# Altium footprint library diode.PCBLIB: 211 footprints (part 6 of 14)
Each footprint in its own frame and in the unit in brackets; x right, y up, seen from the top. Pads: shape width x height; smd on the part's side, far side on the other; paste and mask are expansions set on the pad; w line width, h text height; cw(c..) or ccw(c..) is an arc to the next point about the centre after c.
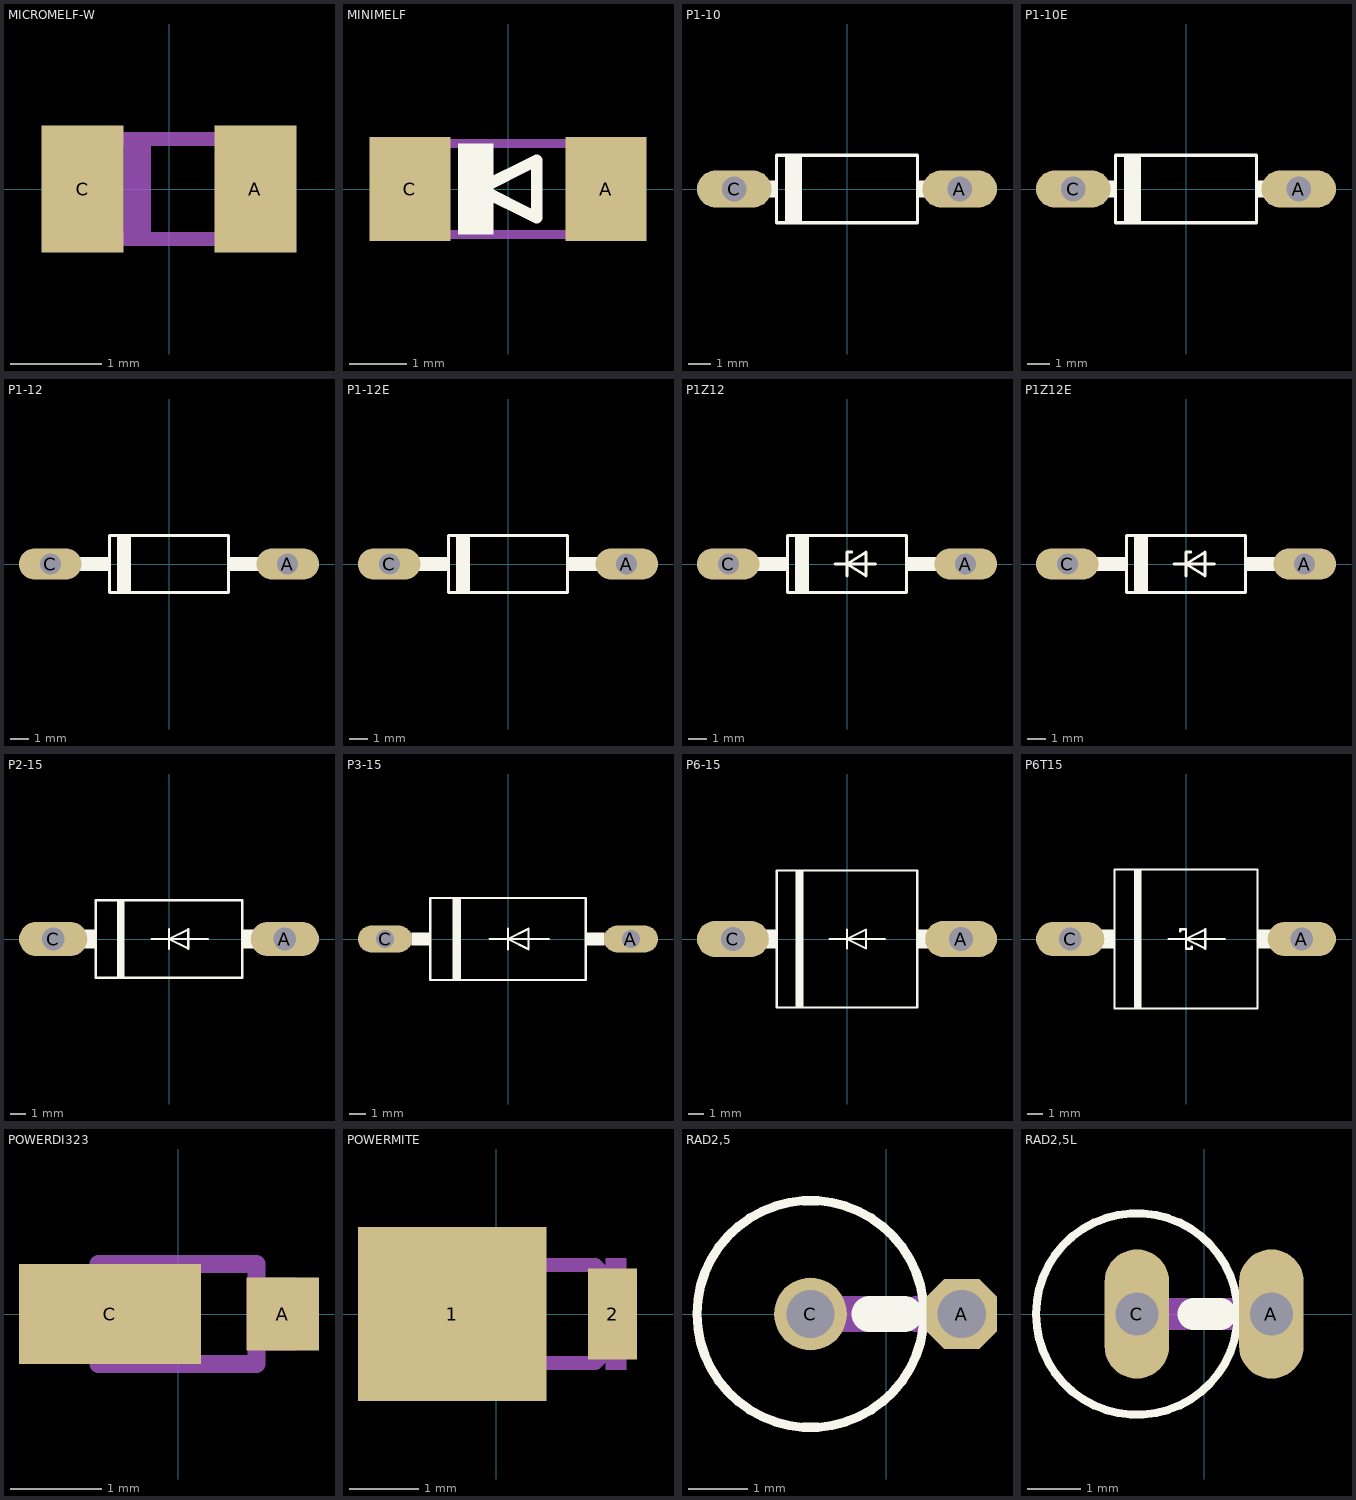
[diagram p5: the footprints below, top view; thin cyan lines are the x and y axes]

## MICROMELF-W [mil]
pads (2):
  rect 35.43x55.12 smd: A(37.4,0) C(-37.4,0)
Mechanical 4:
  rectangle: -19.69,-19.69 -7.87,21.65
  rectangle: 25.59,-25.59 37.4,25.59
  rectangle: -37.4,-25.59 -25.59,25.59
  lines w6: -25.59,-21.65 25.59,-21.65 ; -25.59,21.65 25.59,21.65

## MINIMELF [mil]
pads (2):
  rect 55.12x70.87 smd: A(66.93,0) C(-66.93,0)
Top Overlay:
  rectangle: -34,-31 -10,31
  lines w8: -19.69,0 19.69,-19.69 19.69,19.69 -19.69,0
Mechanical 4:
  rectangle: 51,-34 73,34
  rectangle: -73,-34 -51,34
  lines w6: -52,-31 52,-31 ; -52,31 52,31

## P1-10 [mil]
pads (2):
  oval 132x66 hole 44: A(200,0) C(-200,0)
Top Overlay:
  rectangle: 125,-15 155,15
  rectangle: -155,-15 -125,15
  rectangle: -110,-60 -80,60
  lines w6: -125,-60 -125,60 125,60 125,-60 -125,-60
Mechanical 4:
  lines w30: -200,0 -160,0 ; 160,0 200,0

## P1-10E [mil]
pads (2):
  oval 132x66 hole 44: A(200,0) C(-200,0)
Top Overlay:
  rectangle: -145,-15 -125,15
  rectangle: 125,-15 145,15
  rectangle: -110,-60 -80,60
  lines w6: -125,-60 -125,60 125,60 125,-60 -125,-60
Mechanical 4:
  lines w30: -200,0 -150,0 ; 150,0 200,0

## P1-12 [mil]
pads (2):
  oval 132x66 hole 44: A(250,0) C(-250,0)
Top Overlay:
  rectangle: -205,-15 -125,15
  rectangle: 125,-15 205,15
  rectangle: -110,-60 -80,60
  lines w6: -125,-60 -125,60 125,60 125,-60 -125,-60
Mechanical 4:
  lines w30: -250,0 -210,0 ; 210,0 250,0

## P1-12E [mil]
pads (2):
  oval 132x66 hole 44: A(250,0) C(-250,0)
Top Overlay:
  rectangle: -195,-15 -125,15
  rectangle: 125,-15 195,15
  rectangle: -110,-60 -80,60
  lines w6: -125,-60 -125,60 125,60 125,-60 -125,-60
Mechanical 4:
  lines w30: -250,0 -200,0 ; 200,0 250,0

## P1Z12 [mil]
pads (2):
  oval 132x66 hole 44: A(250,0) C(-250,0)
Top Overlay:
  rectangle: -110,-60 -80,60
  rectangle: 125,-15 205,15
  rectangle: -205,-15 -125,15
  lines w6: -25,0 0,0 ; 0,-25 0,0 ; 10,25 0,25 0,0 ; 60,0 0,0 ; 0,0 40,-25 40,25 0,0 ; -125,-60 125,-60 125,60 -125,60 -125,-60
Mechanical 4:
  lines w30: -250,0 -210,0 ; 210,0 250,0

## P1Z12E [mil]
pads (2):
  oval 132x66 hole 44: A(250,0) C(-250,0)
Top Overlay:
  rectangle: -110,-60 -80,60
  rectangle: 125,-15 195,15
  rectangle: -195,-15 -125,15
  lines w6: -25,0 0,0 ; 0,-25 0,0 ; 10,25 0,25 0,0 ; 60,0 0,0 ; 0,0 40,-25 40,25 0,0 ; -125,-60 125,-60 125,60 -125,60 -125,-60
Mechanical 4:
  lines w30: -250,0 -200,0 ; 200,0 250,0

## P2-15 [mil]
pads (2):
  oval 177x88.5 hole 59: A(300,0) C(-300,0)
Top Overlay:
  rectangle: -135,-100 -115,100
  rectangle: 190,-25 235,25
  rectangle: -235,-25 -190,25
  lines w6: -45,0 0,0 ; 0,-25 0,0 ; 0,25 0,0 ; 100,0 0,0 ; 0,0 50,25 50,-25 0,0 ; -190,-100 -190,100 190,100 190,-100 -190,-100
Mechanical 4:
  lines w50: -300,0 -245,0 ; 245,0 300,0

## P3-15 [mil]
pads (2):
  oval 132x66 hole 44: A(300,0) C(-300,0)
Top Overlay:
  rectangle: -235,-16 -190,16
  rectangle: 190,-16 235,16
  rectangle: -135,-100 -115,100
  lines w6: -45,0 0,0 ; 0,-25 0,0 ; 0,25 0,0 ; 100,0 0,0 ; 0,0 50,-25 50,25 0,0 ; -190,-100 190,-100 190,100 -190,100 -190,-100
Mechanical 4:
  lines w32: -300,0 -240,0 ; 240,0 300,0

## P6-15 [mil]
pads (2):
  oval 189x94.5 hole 63: A(300,0) C(-300,0)
Top Overlay:
  rectangle: -135,-180 -115,180
  rectangle: 185,-25 235,25
  rectangle: -235,-25 -185,25
  lines w6: -45,0 0,0 ; 0,-25 0,0 ; 0,25 0,0 ; 100,0 0,0 ; 0,0 50,25 50,-25 0,0 ; -185,-180 -185,180 185,180 185,-180 -185,-180
Mechanical 4:
  lines w50: -300,0 -245,0 ; 245,0 300,0

## P6T15 [mil]
pads (2):
  oval 177x88.5 hole 59: A(300,0) C(-300,0)
Top Overlay:
  rectangle: -135,-180 -115,180
  rectangle: 185,-25 235,25
  rectangle: -235,-25 -185,25
  lines w6: -45,0 0,0 ; -15,20 -15,25 0,25 0,0 ; 15,-20 15,-25 0,-25 0,0 ; 100,0 0,0 ; 0,0 50,25 50,-25 0,0 ; -185,-180 -185,180 185,180 185,-180 -185,-180
Mechanical 4:
  lines w50: -300,0 -245,0 ; 245,0 300,0

## POWERDI323 [mil]
pads (2):
  rect 31.5x31.5 smd: A(45.28,0)
  rect 78.74x43.31 smd: C(-29.53,0)
Mechanical 4:
  rectangle: -51.18,-21.16 -20.67,21.16
  rectangle: 32.97,-15.75 51.18,15.75
  lines w7.87: 0,-13.78 -16.73,0 0,13.78
  lines w8: -34.45,-21.65 -34.45,21.65 33.96,21.65 33.96,-21.65 -34.45,-21.65

## POWERMITE [mil]
pads (2):
  rect 106.3x98.43 smd: 1(-25,0)
  rect 27.56x51.18 smd: 2(65.55,0)
Mechanical 4:
  rectangle: -45.67,-25.59 -34.84,25.59
  rectangle: -72.24,-31.5 -60.43,31.5
  rectangle: 61.61,-31.5 73.43,31.5
  lines w8: -62.4,-19.69 -54.53,-27.56 55.71,-27.56 63.58,-19.69 ; -62.4,19.69 -54.53,27.56 55.71,27.56 63.58,19.69

## RAD2,5 [mil]
pads (2):
  oct 46.48x46.48 hole 32: A(50,0)
  round 48 hole 32: C(-50,0)
Top Overlay:
  circle w6: c-50,0 r75
  lines w24: -11,0 12,0
Mechanical 4:
  lines w24: -50,0 -15,0 ; 20,0 50,0

## RAD2,5L [mil]
pads (2):
  oval 48x96 hole 32: A(50,0) C(-50,0)
Top Overlay:
  circle w6: c-50,0 r75
  lines w24: -8,0 12,0
Mechanical 4:
  lines w24: -50,0 -15,0 ; 15,0 50,0